# EAGLE library part MAX1708 (library custom)
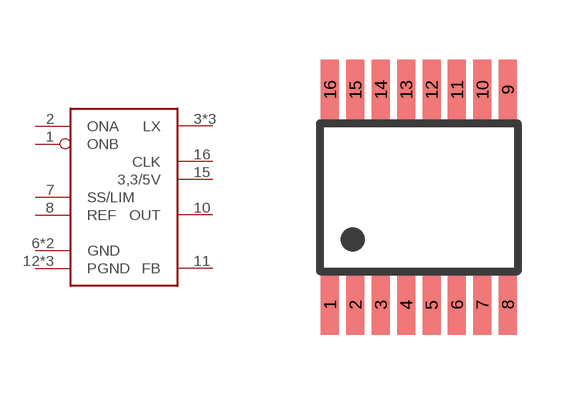
[diagram p14: symbol with the pads of QSOP16; footprint QSOP16]

Designator prefix -

## MAX1708  [QSOP16]
1  ONB
2  ONA
3  LX
4  LX
5  LX
6  GND
7  SS/LIM
8  REF
9  GND
10  OUT
11  FB
12  PGND
13  PGND
14  PGND
15  3,3/5V
16  CLK

## Footprint QSOP16 (pad centres in mm)
smd 0.45 x 1.5: 1 -2.223,-2.69; 2 -1.587,-2.69; 3 -0.953,-2.69; 4 -0.318,-2.69; 5 0.318,-2.69; 6 0.953,-2.69; 7 1.587,-2.69; 8 2.223,-2.69; 9 2.223,2.69; 10 1.587,2.69; 11 0.953,2.69; 12 0.318,2.69; 13 -0.318,2.69; 14 -0.953,2.69; 15 -1.587,2.69; 16 -2.223,2.69